# EAGLE library part LPD8806 (library pimoroni)
3-to-8 decoder
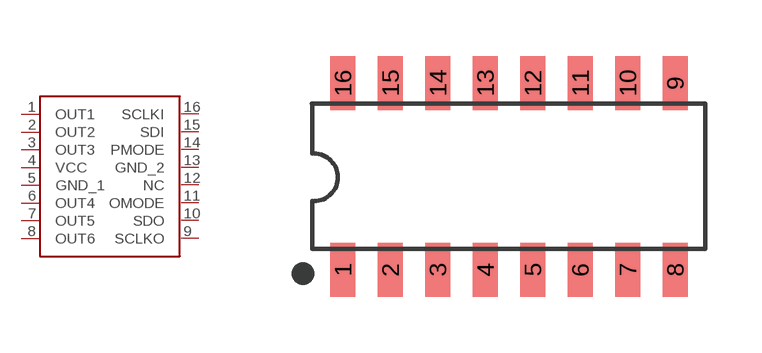
[diagram p2: symbol with the pads of SO-16; footprint SO-16]

Designator prefix -

## LPD8806  [SO-16]
1  OUT1
2  OUT2
3  OUT3
4  VCC
5  GND_1
6  OUT4
7  OUT5
8  OUT6
9  SCLKO
10  SDO
11  OMODE
12  NC
13  GND_2
14  PMODE
15  SDI
16  SCLKI

## Footprint SO-16 (pad centres in mm)
smd 0.67 x 1.45: 1 -4.445,-2.5; 2 -3.175,-2.5; 3 -1.905,-2.5; 4 -0.635,-2.5; 5 0.635,-2.5; 6 1.905,-2.5; 7 3.175,-2.5; 8 4.445,-2.5; 9 4.445,2.5; 10 3.175,2.5; 11 1.905,2.5; 12 0.635,2.5; 13 -0.635,2.5; 14 -1.905,2.5; 15 -3.175,2.5; 16 -4.445,2.5